# Altium footprint library ENGG4000-SysMoDEL-BMS.PcbLib: 82 footprints (part 3 of 6)
Each footprint in its own frame and in the unit in brackets; x right, y up, seen from the top. Pads: shape width x height; smd on the part's side, far side on the other; paste and mask are expansions set on the pad; w line width, h text height; cw(c..) or ccw(c..) is an arc to the next point about the centre after c.
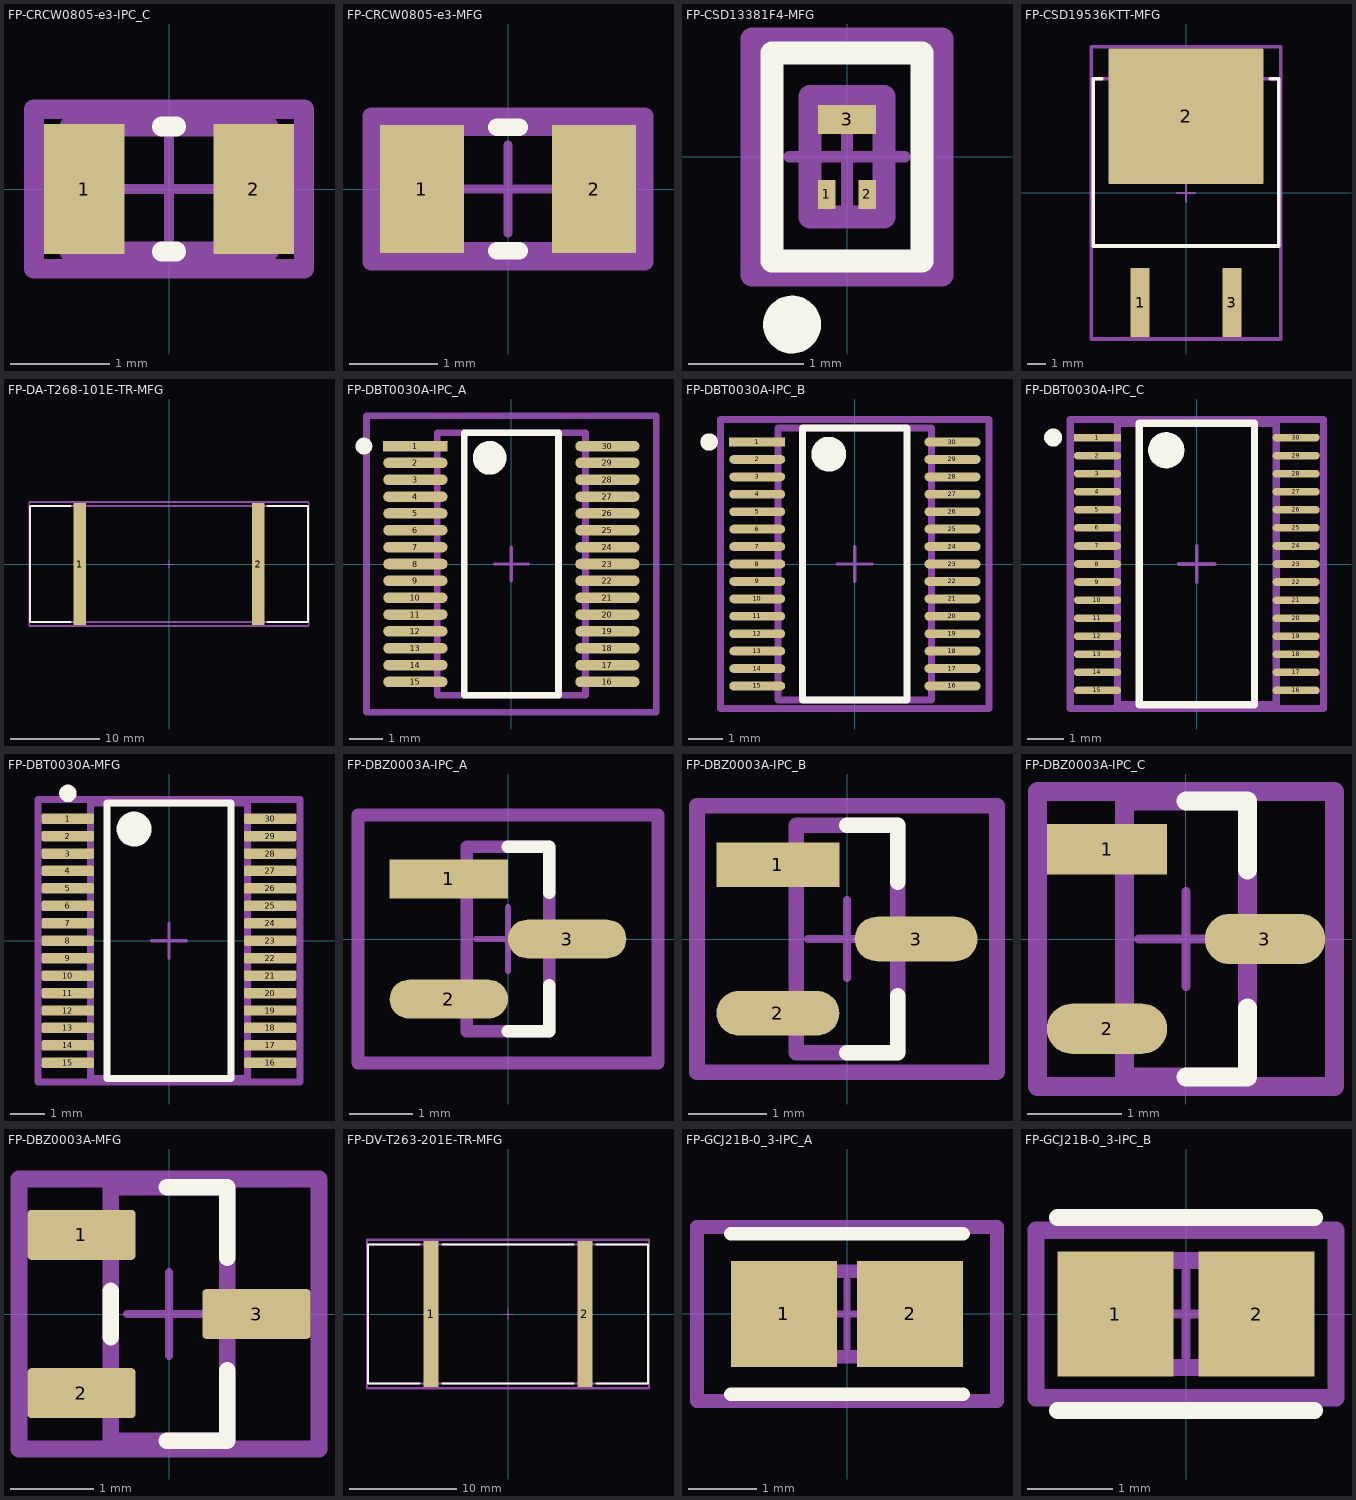
[diagram p2: the footprints below, top view; thin cyan lines are the x and y axes]

## FP-CRCW0805-e3-IPC_C [mil]
pads (2):
  rect 31.75x51.5 smd paste+0 mask+0: 1(-33.5,0) 2(33.5,0)
Top Overlay:
  lines w7.87: -2.86,-24.61 2.86,-24.61 ; -2.86,24.61 2.86,24.61
Top Assembly:
  lines w7.87: -53.31,-31.5 53.31,-31.5 53.31,31.5 -53.31,31.5 -53.31,-31.5
  text ".Designator" at 0,7.4 h39.37
Top 3D Body:
  lines w7.87: -39.37,-24.61 39.37,-24.61 39.37,24.61 -39.37,24.61 -39.37,-24.61
Top Courtyard:
  lines w7.87: -53.31,-31.5 53.31,-31.5 53.31,31.5 -53.31,31.5 -53.31,-31.5
Top Component Center:
  lines w3.94: -19.68,0 19.68,0 ; 0,-19.68 0,19.68
3D body "Res_Vishay_CRCW0805100KFKEA_eec.STEP": height 10, standoff 0, extent -53.31,-31.5 53.31,31.5

## FP-CRCW0805-e3-MFG [mm]
pads (2):
  rect 0.95x1.45 smd paste+0 mask+0: 1(-0.975,0) 2(0.975,0)
Top Overlay:
  lines w0.2: -0.125,-0.7 0.125,-0.7 ; -0.125,0.7 0.125,0.7
Top Assembly:
  lines w0.2: -1.55,-0.825 1.55,-0.825 1.55,0.825 -1.55,0.825 -1.55,-0.825
  text ".Designator" at 0,0.188 h1
Top 3D Body:
  lines w0.2: -1.1,-0.7 1.1,-0.7 1.1,0.7 -1.1,0.7 -1.1,-0.7
Top Courtyard:
  lines w0.2: -1.55,-0.825 1.55,-0.825 1.55,0.825 -1.55,0.825 -1.55,-0.825
Top Component Center:
  lines w0.1: -0.5,0 0.5,0 ; 0,-0.5 0,0.5
3D body "Res_Vishay_CRCW0805100KFKEA_eec.STEP": height 0.25, standoff 0, extent -1.55,-0.825 1.55,0.825

## FP-CSD13381F4-MFG [mm]
pads (3):
  rect 0.15x0.25 smd paste+0 mask+0: 1(-0.175,-0.325) 2(0.175,-0.325)
  rect 0.5x0.25 smd paste+0 mask+0: 3(0,0.325)
Top Overlay:
  circle w0.25: c-0.475,-1.45 r0.125
  lines w0.2: -0.65,-0.9 -0.65,0.9 0.65,0.9 0.65,-0.9 -0.65,-0.9
Top Assembly:
  lines w0.2: -0.82,-1.02 -0.82,1.02 0.82,1.02 0.82,-1.02 -0.82,-1.02
  text ".Designator" at 0,0 h1
Top 3D Body:
  lines w0.2: -0.32,-0.52 -0.32,0.52 0.32,0.52 0.32,-0.52 -0.32,-0.52
Top Courtyard:
  lines w0.2: -0.82,-1.02 -0.82,1.02 0.82,1.02 0.82,-1.02 -0.82,-1.02
Top Component Center:
  lines w0.1: -0.5,0 0.5,0 ; 0,-0.5 0,0.5
3D body "Trans_Texas_Instruments_CSD13381F4_eec.STEP": height 0.25, standoff 0, extent -0.82,-1.02 0.82,1.02

## FP-CSD19536KTT-MFG [mm]
pads (3):
  rrect10% 1.05x3.82 smd paste+0 mask+0: 1(-2.54,-6.065) 3(2.54,-6.065)
  rrect1% 8.55x7.48 smd paste-1000 mask+0: 2(0,4.235)
Top Overlay:
  lines w0.2: -4.65,6.315 -5.13,6.315 -5.13,-2.935 5.13,-2.935 5.13,6.315 4.65,6.315
Top Paste:
  drawing of 42 lines, arcs and shapes, not listed
Top Assembly:
  lines w0.2: -5.23,-8.075 -5.23,8.075 5.23,8.075 5.23,-8.075 -5.23,-8.075
  text ".Designator" at 0,0.188 h1
Top 3D Body:
  lines w0.2: -5.13,-2.935 -5.13,6.315 5.13,6.315 5.13,-2.935 -5.13,-2.935
Top Courtyard:
  lines w0.2: -5.23,-8.075 -5.23,8.075 5.23,8.075 5.23,-8.075 -5.23,-8.075
Top Component Center:
  lines w0.1: -0.5,0 0.5,0 ; 0,-0.5 0,0.5
3D body "Trans_Texas_Instruments_CSD19536KTT_eec.STEP": height 0.25, standoff 0, extent -5.23,-8.075 5.23,8.075

## FP-DA-T268-101E-TR-MFG [mm] "New Heatsink"
pads (2):
  rect 1.4x13.7 smd paste+0 mask+0: 1(-10,0) 2(10,0)
Top Overlay:
  lines w0.2: -11.075,-6.5 -15.6,-6.5 -15.6,6.5 -11.075,6.5 ; 11.075,-6.5 15.6,-6.5 15.6,6.5 11.075,6.5
Top Assembly:
  lines w0.2: -15.7,-6.95 -15.7,6.95 15.7,6.95 15.7,-6.95 -15.7,-6.95
  text ".Designator" at 0,0.188 h1
Top 3D Body:
  lines w0.2: -15.6,-6.5 -15.6,6.5 15.6,6.5 15.6,-6.5 -15.6,-6.5
Top Courtyard:
  lines w0.2: -15.7,-6.95 -15.7,6.95 15.7,6.95 15.7,-6.95 -15.7,-6.95
Top Component Center:
  lines w0.1: -0.5,0 0.5,0 ; 0,-0.5 0,0.5
3D body "UNK_Ohmite_DA-T268-101E-TR_eec.STEP": height 12, standoff 0, extent -15.633,-6.351 15.633,6.35

## FP-DBT0030A-IPC_A [mm]
pads (30):
  rect 1.907x0.312 smd paste+0 mask+0: 1(-2.851,3.5)
  rrect100% 1.907x0.312 smd paste+0 mask+0: 2(-2.851,3) 3(-2.851,2.5) 4(-2.851,2) 5(-2.851,1.5) 6(-2.851,1) 7(-2.851,0.5) 8(-2.851,0) 9(-2.851,-0.5) 10(-2.851,-1) 11(-2.851,-1.5) 12(-2.851,-2) 13(-2.851,-2.5) 14(-2.851,-3) 15(-2.851,-3.5) 16(2.851,-3.5) 17(2.851,-3) 18(2.851,-2.5) 19(2.851,-2) 20(2.851,-1.5) 21(2.851,-1) 22(2.851,-0.5) 23(2.851,0) 24(2.851,0.5) 25(2.851,1) 26(2.851,1.5) 27(2.851,2) 28(2.851,2.5) 29(2.851,3) 30(2.851,3.5)
Top Overlay:
  circle w0.5: c-0.647,3.15 r0.25
  circle w0.25: c-4.379,3.5 r0.125
  lines w0.2: -1.397,-3.9 1.397,-3.9 1.397,3.9 -1.397,3.9 -1.397,-3.9
Top Assembly:
  lines w0.2: -4.304,-4.4 4.304,-4.4 4.304,4.4 -4.304,4.4 -4.304,-4.4
  text ".Designator" at 0,0 h1
Top 3D Body:
  lines w0.2: -2.2,-3.9 2.2,-3.9 2.2,3.9 -2.2,3.9 -2.2,-3.9
Top Courtyard:
  lines w0.2: -4.304,-4.4 4.304,-4.4 4.304,4.4 -4.304,4.4 -4.304,-4.4
Top Component Center:
  lines w0.1: -0.5,0 0.5,0 ; 0,-0.5 0,0.5
3D body "IC_Texas_Instruments_BQ7693003DBTR_eec.STEP": height 0.25, standoff 0, extent -4.304,-4.4 4.304,4.4

## FP-DBT0030A-IPC_B [mm]
pads (30):
  rect 1.607x0.252 smd paste+0 mask+0: 1(-2.801,3.5)
  rrect100% 1.607x0.252 smd paste+0 mask+0: 2(-2.801,3) 3(-2.801,2.5) 4(-2.801,2) 5(-2.801,1.5) 6(-2.801,1) 7(-2.801,0.5) 8(-2.801,0) 9(-2.801,-0.5) 10(-2.801,-1) 11(-2.801,-1.5) 12(-2.801,-2) 13(-2.801,-2.5) 14(-2.801,-3) 15(-2.801,-3.5) 16(2.801,-3.5) 17(2.801,-3) 18(2.801,-2.5) 19(2.801,-2) 20(2.801,-1.5) 21(2.801,-1) 22(2.801,-0.5) 23(2.801,0) 24(2.801,0.5) 25(2.801,1) 26(2.801,1.5) 27(2.801,2) 28(2.801,2.5) 29(2.801,3) 30(2.801,3.5)
Top Overlay:
  circle w0.5: c-0.747,3.15 r0.25
  circle w0.25: c-4.179,3.5 r0.125
  lines w0.2: -1.497,-3.9 1.497,-3.9 1.497,3.9 -1.497,3.9 -1.497,-3.9
Top Assembly:
  lines w0.2: -3.854,-4.15 3.854,-4.15 3.854,4.15 -3.854,4.15 -3.854,-4.15
  text ".Designator" at 0,0 h1
Top 3D Body:
  lines w0.2: -2.2,-3.9 2.2,-3.9 2.2,3.9 -2.2,3.9 -2.2,-3.9
Top Courtyard:
  lines w0.2: -3.854,-4.15 3.854,-4.15 3.854,4.15 -3.854,4.15 -3.854,-4.15
Top Component Center:
  lines w0.1: -0.5,0 0.5,0 ; 0,-0.5 0,0.5
3D body "IC_Texas_Instruments_BQ7693003DBTR_eec.STEP": height 0.25, standoff 0, extent -3.854,-4.15 3.854,4.15

## FP-DBT0030A-IPC_C [mm]
pads (30):
  rect 1.307x0.212 smd paste+0 mask+0: 1(-2.751,3.5)
  rrect100% 1.307x0.212 smd paste+0 mask+0: 2(-2.751,3) 3(-2.751,2.5) 4(-2.751,2) 5(-2.751,1.5) 6(-2.751,1) 7(-2.751,0.5) 8(-2.751,0) 9(-2.751,-0.5) 10(-2.751,-1) 11(-2.751,-1.5) 12(-2.751,-2) 13(-2.751,-2.5) 14(-2.751,-3) 15(-2.751,-3.5) 16(2.751,-3.5) 17(2.751,-3) 18(2.751,-2.5) 19(2.751,-2) 20(2.751,-1.5) 21(2.751,-1) 22(2.751,-0.5) 23(2.751,0) 24(2.751,0.5) 25(2.751,1) 26(2.751,1.5) 27(2.751,2) 28(2.751,2.5) 29(2.751,3) 30(2.751,3.5)
Top Overlay:
  circle w0.25: c-3.979,3.5 r0.125
  circle w0.5: c-0.847,3.15 r0.25
  lines w0.2: -1.597,-3.9 -1.597,3.9 1.597,3.9 1.597,-3.9 -1.597,-3.9
Top Assembly:
  lines w0.2: -3.504,-4 -3.504,4 3.504,4 3.504,-4 -3.504,-4
  text ".Designator" at 0,0 h1
Top 3D Body:
  lines w0.2: -2.2,-3.9 -2.2,3.9 2.2,3.9 2.2,-3.9 -2.2,-3.9
Top Courtyard:
  lines w0.2: -3.504,-4 -3.504,4 3.504,4 3.504,-4 -3.504,-4
Top Component Center:
  lines w0.1: -0.5,0 0.5,0 ; 0,-0.5 0,0.5
3D body "IC_Texas_Instruments_BQ7693003DBTR_eec.STEP": height 0.25, standoff 0, extent -3.504,-4 3.504,4

## FP-DBT0030A-MFG [mm]
pads (30):
  rrect33% 1.5x0.3 smd paste+0 mask+0: 1(-2.9,3.5) 2(-2.9,3) 3(-2.9,2.5) 4(-2.9,2) 5(-2.9,1.5) 6(-2.9,1) 7(-2.9,0.5) 8(-2.9,0) 9(-2.9,-0.5) 10(-2.9,-1) 11(-2.9,-1.5) 12(-2.9,-2) 13(-2.9,-2.5) 14(-2.9,-3) 15(-2.9,-3.5) 16(2.9,-3.5) 17(2.9,-3) 18(2.9,-2.5) 19(2.9,-2) 20(2.9,-1.5) 21(2.9,-1) 22(2.9,-0.5) 23(2.9,0) 24(2.9,0.5) 25(2.9,1) 26(2.9,1.5) 27(2.9,2) 28(2.9,2.5) 29(2.9,3) 30(2.9,3.5)
Top Overlay:
  circle w0.5: c-1,3.2 r0.25
  circle w0.25: c-2.9,4.225 r0.125
  lines w0.2: -1.775,-3.95 -1.775,3.95 1.775,3.95 1.775,-3.95 -1.775,-3.95
Top Assembly:
  lines w0.2: -3.75,-4.05 -3.75,4.05 3.75,4.05 3.75,-4.05 -3.75,-4.05
  text ".Designator" at 0,0 h1
Top 3D Body:
  lines w0.2: -2.25,-3.95 -2.25,3.95 2.25,3.95 2.25,-3.95 -2.25,-3.95
Top Courtyard:
  lines w0.2: -3.75,-4.05 -3.75,4.05 3.75,4.05 3.75,-4.05 -3.75,-4.05
Top Component Center:
  lines w0.1: -0.5,0 0.5,0 ; 0,-0.5 0,0.5
3D body "IC_Texas_Instruments_BQ7693003DBTR_eec.STEP": height 0.25, standoff 0, extent -3.75,-4.05 3.75,4.05

## FP-DBZ0003A-IPC_A [mm]
pads (3):
  rect 1.874x0.612 smd paste+0 mask+0: 1(-0.935,0.95)
  rrect100% 1.874x0.612 smd paste+0 mask+0: 2(-0.935,-0.95) 3(0.935,0)
Top Overlay:
  lines w0.2: 0,-1.46 0.65,-1.46 0.65,-0.73 ; 0,1.46 0.65,1.46 0.65,0.73
Top Assembly:
  lines w0.2: -2.372,-1.96 -2.372,1.96 2.372,1.96 2.372,-1.96 -2.372,-1.96
  text ".Designator" at 0,0 h1
Top 3D Body:
  lines w0.2: -0.65,-1.46 -0.65,1.46 0.65,1.46 0.65,-1.46 -0.65,-1.46
Top Courtyard:
  lines w0.2: -2.372,-1.96 -2.372,1.96 2.372,1.96 2.372,-1.96 -2.372,-1.96
Top Component Center:
  lines w0.1: -0.5,0 0.5,0 ; 0,-0.5 0,0.5
3D body "IC_Texas_Instruments_DRV5032FADBZR_eec.STEP": height 0.25, standoff 0, extent -2.372,-1.96 2.372,1.96

## FP-DBZ0003A-IPC_B [mm]
pads (3):
  rect 1.574x0.572 smd paste+0 mask+0: 1(-0.885,0.95)
  rrect100% 1.574x0.572 smd paste+0 mask+0: 2(-0.885,-0.95) 3(0.885,0)
Top Overlay:
  lines w0.2: 0,-1.46 0.65,-1.46 0.65,-0.73 ; 0,1.46 0.65,1.46 0.65,0.73
Top Assembly:
  lines w0.2: -1.922,-1.71 1.922,-1.71 1.922,1.71 -1.922,1.71 -1.922,-1.71
  text ".Designator" at 0,0 h1
Top 3D Body:
  lines w0.2: -0.65,-1.46 0.65,-1.46 0.65,1.46 -0.65,1.46 -0.65,-1.46
Top Courtyard:
  lines w0.2: -1.922,-1.71 1.922,-1.71 1.922,1.71 -1.922,1.71 -1.922,-1.71
Top Component Center:
  lines w0.1: -0.5,0 0.5,0 ; 0,-0.5 0,0.5
3D body "IC_Texas_Instruments_DRV5032FADBZR_eec.STEP": height 0.25, standoff 0, extent -1.922,-1.71 1.922,1.71

## FP-DBZ0003A-IPC_C [mm]
pads (3):
  rect 1.274x0.532 smd paste+0 mask+0: 1(-0.835,0.95)
  rrect100% 1.274x0.532 smd paste+0 mask+0: 2(-0.835,-0.95) 3(0.835,0)
Top Overlay:
  lines w0.2: 0,-1.46 0.65,-1.46 0.65,-0.73 ; 0,1.46 0.65,1.46 0.65,0.73
Top Assembly:
  lines w0.2: -1.572,-1.56 -1.572,1.56 1.572,1.56 1.572,-1.56 -1.572,-1.56
  text ".Designator" at 0,0 h1
Top 3D Body:
  lines w0.2: -0.65,-1.46 -0.65,1.46 0.65,1.46 0.65,-1.46 -0.65,-1.46
Top Courtyard:
  lines w0.2: -1.572,-1.56 -1.572,1.56 1.572,1.56 1.572,-1.56 -1.572,-1.56
Top Component Center:
  lines w0.1: -0.5,0 0.5,0 ; 0,-0.5 0,0.5
3D body "IC_Texas_Instruments_DRV5032FADBZR_eec.STEP": height 0.25, standoff 0, extent -1.572,-1.56 1.572,1.56

## FP-DBZ0003A-MFG [mm]
pads (3):
  rrect17% 1.3x0.6 smd paste+0 mask+0: 1(-1.05,0.95) 2(-1.05,-0.95) 3(1.05,0)
Top Overlay:
  lines w0.2: -0.7,-0.275 -0.7,0.275 ; -0.025,-1.52 0.7,-1.52 0.7,-0.675 ; -0.025,1.52 0.7,1.52 0.7,0.675
Top Assembly:
  lines w0.2: -1.8,-1.62 -1.8,1.62 1.8,1.62 1.8,-1.62 -1.8,-1.62
  text ".Designator" at 0,0 h1
Top 3D Body:
  lines w0.2: -0.7,-1.52 -0.7,1.52 0.7,1.52 0.7,-1.52 -0.7,-1.52
Top Courtyard:
  lines w0.2: -1.8,-1.62 -1.8,1.62 1.8,1.62 1.8,-1.62 -1.8,-1.62
Top Component Center:
  lines w0.1: -0.5,0 0.5,0 ; 0,-0.5 0,0.5
3D body "IC_Texas_Instruments_DRV5032FADBZR_eec.STEP": height 0.25, standoff 0, extent -1.8,-1.62 1.8,1.62

## FP-DV-T263-201E-TR-MFG [mm]
pads (2):
  rect 1.4x13.7 smd paste+0 mask+0: 1(-7.2,0) 2(7.2,0)
Top Overlay:
  lines w0.2: -8.275,-6.5 -13.1,-6.5 -13.1,6.5 -8.275,6.5 ; -6.125,-6.5 6.125,-6.5 ; -6.125,6.5 6.125,6.5 ; 8.275,-6.5 13.1,-6.5 13.1,6.5 8.275,6.5
Top Assembly:
  lines w0.2: -13.2,-6.95 13.2,-6.95 13.2,6.95 -13.2,6.95 -13.2,-6.95
  text ".Designator" at 0,0 h1
Top 3D Body:
  lines w0.2: -13.1,-6.5 13.1,-6.5 13.1,6.5 -13.1,6.5 -13.1,-6.5
Top Courtyard:
  lines w0.2: -13.2,-6.95 13.2,-6.95 13.2,6.95 -13.2,6.95 -13.2,-6.95
Top Component Center:
  lines w0.1: -0.5,0 0.5,0 ; 0,-0.5 0,0.5
3D body "UNK_Ohmite_DV-T263-201E-TR_eec.STEP": height 0.25, standoff 0, extent -13.2,-6.95 13.2,6.95

## FP-GCJ21B-0_3-IPC_A [mm]
pads (2):
  rect 1.553x1.556 smd paste+0 mask+0: 1(-0.925,0) 2(0.925,0)
Top Overlay:
  lines w0.2: -1.702,-1.178 1.702,-1.178 ; -1.702,1.178 1.702,1.178
Top Assembly:
  lines w0.2: -2.202,-1.278 -2.202,1.278 2.202,1.278 2.202,-1.278 -2.202,-1.278
  text ".Designator" at 0,0.188 h1
Top 3D Body:
  lines w0.2: -1,-0.625 -1,0.625 1,0.625 1,-0.625 -1,-0.625
Top Courtyard:
  lines w0.2: -2.202,-1.278 -2.202,1.278 2.202,1.278 2.202,-1.278 -2.202,-1.278
Top Component Center:
  lines w0.1: -0.5,0 0.5,0 ; 0,-0.5 0,0.5
3D body "Cap_Murata_GCJ21BR71H105KA01K_eec.STEP": height 0.25, standoff 0, extent -2.202,-1.278 2.202,1.278

## FP-GCJ21B-0_3-IPC_B [mm]
pads (2):
  rect 1.353x1.456 smd paste+0 mask+0: 1(-0.825,0) 2(0.825,0)
Top Overlay:
  lines w0.2: -1.502,-1.128 1.502,-1.128 ; -1.502,1.128 1.502,1.128
Top Assembly:
  lines w0.2: -1.752,-0.978 -1.752,0.978 1.752,0.978 1.752,-0.978 -1.752,-0.978
  text ".Designator" at 0,0.188 h1
Top 3D Body:
  lines w0.2: -1,-0.625 -1,0.625 1,0.625 1,-0.625 -1,-0.625
Top Courtyard:
  lines w0.2: -1.752,-0.978 -1.752,0.978 1.752,0.978 1.752,-0.978 -1.752,-0.978
Top Component Center:
  lines w0.1: -0.5,0 0.5,0 ; 0,-0.5 0,0.5
3D body "Cap_Murata_GCJ21BR71H105KA01K_eec.STEP": height 0.25, standoff 0, extent -1.752,-0.978 1.752,0.978